# Altium integrated library AC0805FR-101KL.IntLib: 1 symbol
Pins are listed as number, name and electrical type; pins without a type are passive.

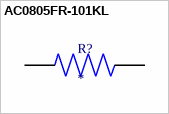
[diagram p0: symbol AC0805FR-101KL]

## AC0805FR-101KL
designator R?
1 kOhms Â±1% 0.125W, 1/8W Chip Resistor 0805 (2012 Metric) Automotive AEC-Q200 Thick Film; MP: AC0805FR-101KL; MF: YAGEO; Purchase-URL: https://pricing.snapeda.com/search/part/AC0805FR-101KL/?ref=eda; Package: None; Digi-Key_Part_Number: 13-AC0805FR-101KLTR-ND; Value: *; Check_prices: https://www.snapeda.com/parts/AC0805FR-101KL/Yageo/view-part/?ref=eda; SnapEDA_Link: https://www.snapeda.com/parts/AC0805FR-101KL/Yageo/view-part/?ref=snap
footprint RESC2012X60N
pins: 1, 2